# Altium footprint library SOT系列封装.PcbLib: 12 footprints
Each footprint in its own frame and in the unit in brackets; x right, y up, seen from the top. Pads: shape width x height; smd on the part's side, far side on the other; paste and mask are expansions set on the pad; w line width, h text height; cw(c..) or ccw(c..) is an arc to the next point about the centre after c.
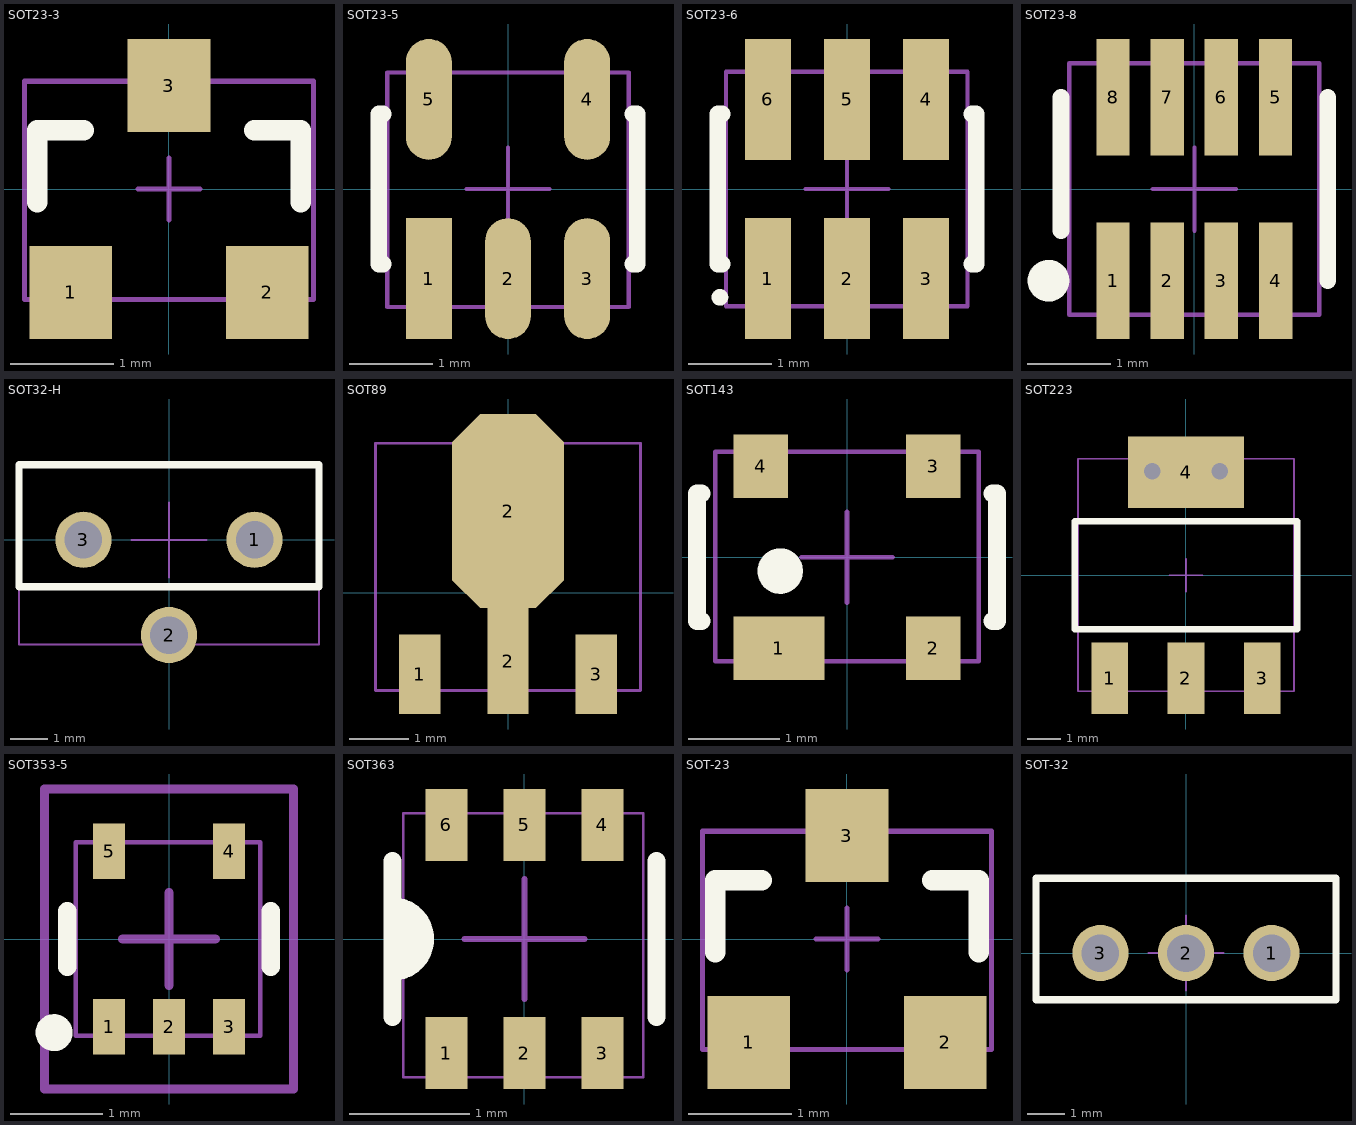
[diagram p0: the footprints below, top view; thin cyan lines are the x and y axes]

## SOT23-3 [mm] "SOT-23; 3 Leads; Body 3.0 x 2.5 mm, inc. leads (LxW max)"
height 1.2
pads (3):
  rect 0.8x0.9 smd: 1(-0.95,-1) 2(0.95,-1) 3(0,1)
Top Overlay:
  lines w0.2: -1.275,-0.127 -1.275,0.567 -0.825,0.567 ; 0.825,0.567 1.275,0.567 1.275,-0.127
Mechanical 13:
  lines w0.05: -1.397,-1.067 -1.397,1.041 -1.346,1.041 1.397,1.041 1.397,-1.067 -1.397,-1.067
Mechanical 15:
  lines w0.05: -0.3,0 0,0 ; 0,-0.3 0,0 ; 0,0.3 0,0 ; 0.3,0 0,0
3D body: height 0.9, standoff 0, extent -1.397,-1.067 1.403,1.033

## SOT23-5 [mm] "SOT-23/SC-74A; 5 Leads; Body 3 x 3 mm, inc. leads (LxW max)"
height 1.45
pads (5):
  rect 0.55x1.45 smd: 1(-0.95,-1.075)
  oval 0.55x1.45 smd: 2(0,-1.075) 3(0.95,-1.075) 4(0.95,1.075) 5(-0.95,1.075)
Top Overlay:
  lines w0.2: -1.5,-0.9 -1.55,-0.9 -1.55,0.9 -1.5,0.9 ; 1.5,-0.9 1.55,-0.9 1.55,0.9 1.5,0.9
Mechanical 13:
  lines w0.05: -1.45,-1.417 1.45,-1.417 1.45,1.397 -1.45,1.397 -1.45,-1.417
Mechanical 15:
  lines w0.05: -0.5,0 0.5,0 ; 0,-0.5 0,0.5
3D body: height 1.1, standoff 0.05, extent -1.45,-1.417 1.45,1.397

## SOT23-6 [mm] "SOT-23/SC-74A; 5 Leads; Body 3.1 x 3 mm, inc. leads (LxW max)"
height 1.45
pads (6):
  rect 0.55x1.45 smd: 1(-0.95,-1.075) 2(0,-1.075) 3(0.95,-1.075) 4(0.95,1.075) 5(0,1.075) 6(-0.95,1.075)
Top Overlay:
  circle w0.1: c-1.525,-1.3 r0.05
  lines w0.2: -1.5,-0.9 -1.55,-0.9 -1.55,0.9 -1.5,0.9 ; 1.5,-0.9 1.55,-0.9 1.55,0.9 1.5,0.9
Mechanical 13:
  lines w0.05: -1.452,-1.407 1.448,-1.407 1.448,1.407 -1.452,1.407 -1.452,-1.407
Mechanical 15:
  lines w0.05: -0.5,0 0.5,0 ; 0,-0.5 0,0.5
3D body: height 1.05, standoff 0, extent -1.452,-1.407 1.448,1.407

## SOT23-8 [mm] "SSOP; 8 Leads; Body Width 1.6 mm; Pitch 0.65 mm"
height 1.45
pads (8):
  rect 0.4x1.4 smd: 1(-0.975,-1.1) 2(-0.325,-1.1) 3(0.325,-1.1) 4(0.975,-1.1) 5(0.975,1.1) 6(0.325,1.1) 7(-0.325,1.1) 8(-0.975,1.1)
Top Overlay:
  circle w0.25: c-1.75,-1.1 r0.125
  lines w0.2: -1.6,-0.5 -1.6,1.1 ; 1.6,-1.1 1.6,1.1
Mechanical 13:
  lines w0.05: -1.501,-1.509 1.499,-1.509 1.499,1.509 -1.501,1.509 -1.501,-1.509
Mechanical 15:
  lines w0.05: -0.5,0 0.5,0 ; 0,-0.5 0,0.5
3D body: height 1, standoff 0, extent -1.501,-1.509 1.499,1.509

## SOT32-H [mm] "SOT-32 [TO-126]晶体管"
height 15
pads (3):
  round 1.5 hole 1: 1(2.28,0) 2(0,-2.54) 3(-2.28,0)
Top Overlay:
  lines w0.2: -4,-1.25 4,-1.25 4,2 -4,2 -4,-1.25
Mechanical 13:
  lines w0.05: -4,-2.79 -4,2 4,2 4,-2.79 -4,-2.79
Mechanical 15:
  lines w0.05: -1,0 1,0 ; 0,-1 0,1
3D body: height 15.3, standoff -3.7, extent -4,-2.79 4,2

## SOT89 [mm] "SOT-89; Body 4.6 x 4.25 mm, inc. leads (LxW max)"
height 1.6
pads (4):
  rect 0.7x1.35 smd: 1(-1.5,-1.388) 3(1.5,-1.388)
  rect 0.7x1.8 smd: 2(0,-1.162)
  oct 1.9x3.3 smd: 2(0,1.388)
Mechanical 13:
  lines w0.05: -2.25,-1.66 -2.25,2.54 2.25,2.54 2.25,-1.66 -2.25,-1.66
Mechanical 15:
  lines w0.05: -0.5,0 0.5,0 ; 0,-0.5 0,0.5
3D body: height 1.56, standoff 0.06, extent -2.25,-1.66 2.25,2.54

## SOT143 [mm] "SOT-143; 4 Leads; Body 3 x 2.5 mm, inc. leads (LxW max)"
height 1.2
pads (4):
  rect 1x0.7 smd: 1(-0.75,-1)
  rect 0.6x0.7 smd: 2(0.95,-1) 3(0.95,1) 4(-0.95,1)
Top Overlay:
  circle w0.25: c-0.735,-0.152 r0.125
  lines w0.2: -1.598,-0.7 -1.648,-0.7 -1.648,0.7 -1.598,0.7 ; 1.598,-0.7 1.648,-0.7 1.648,0.7 1.598,0.7
Mechanical 13:
  lines w0.05: -1.45,-1.143 -1.45,1.157 1.45,1.157 1.45,-1.143 -1.45,-1.143
Mechanical 15:
  lines w0.05: -0.5,0 0.5,0 ; 0,-0.5 0,0.5
3D body: height 1.1, standoff 0, extent -1.45,-1.143 1.45,1.157

## SOT223 [mm] "SOT-223/SC-73; 4 Leads; Body 6.7 x 7.3 mm, inc. leads (LxW max)"
height 1.8
pads (4):
  rect 1.1x2.15 smd: 1(-2.3,-3.1) 2(0,-3.1) 3(2.3,-3.1)
  rect 3.5x2.15 smd: 4(0,3.1)
via -1.016,3.124 diameter 0.8 hole 0.5
via 1.016,3.124 diameter 0.8 hole 0.5
Top Overlay:
  lines w0.2: -3.35,-1.625 -3.35,1.625 3.35,1.625 3.35,-1.625 -3.35,-1.625
Mechanical 13:
  lines w0.05: -3.25,-3.495 3.25,-3.495 3.25,3.505 -3.25,3.505 -3.25,-3.495
Mechanical 15:
  lines w0.05: -0.5,0 0.5,0 ; 0,-0.5 0,0.5
3D body: height 1.7, standoff 0.04, extent -3.25,-3.495 3.25,3.505

## SOT353-5 [mm] "SOT353, 5-Leads, Body 2x1.3mm, Pitch 0.65mm, Lead Span 2.1mm, IPC Medium Density"
height 1.1
pads (5):
  rect 0.35x0.6 smd: 1(-0.65,-0.95) 2(0,-0.95) 3(0.65,-0.95) 4(0.65,0.95) 5(-0.65,0.95)
Top Overlay:
  circle w0.2: c-1.245,-1.014 r0.1
  lines w0.2: -1.1,-0.3 -1.1,0.3 ; 1.1,-0.3 1.1,0.3
Mechanical 13:
  lines w0.05: -1.009,-1.05 0.991,-1.05 0.991,1.05 -1.009,1.05 -1.009,-1.05
Mechanical 15:
  lines w0.1: -0.5,0 0.5,0 ; 0,-0.5 0,0.5 ; -1.35,-1.625 -1.35,1.625 1.35,1.625 1.35,-1.625 -1.35,-1.625
3D body: height 1.05, standoff 0.02, extent -1.009,-1.05 0.991,1.05

## SOT363 [mm] "small diode and transistor"
height 1
pads (6):
  rect 0.35x0.6 smd: 1(-0.65,-0.95) 2(0,-0.95) 3(0.65,-0.95) 4(0.65,0.95) 5(0,0.95) 6(-0.65,0.95)
Top Overlay:
  lines w0.15: -1.1,-0.65 -1.1,0.65 ; -1.1,-0.273 ccw(c-1.1,0) -1.1,0.273 ; -1.1,-0.135 ccw(c-1.1,0) -1.1,0.135 ; 1.1,-0.65 1.1,0.65
Mechanical 13:
  lines w0.02: -1.009,-1.151 0.991,-1.151 0.991,1.049 -1.009,1.049 -1.009,-1.151
Mechanical 15:
  lines w0.05: -0.5,0 0.5,0 ; 0,-0.5 0,0.5
3D body: height 1.05, standoff 0, extent -1.009,-1.151 0.991,1.049

## SOT-23 [mm] "SOT-23; 3 Leads; Body 3.0 x 2.5 mm, inc. leads (LxW max)"
height 1.2
pads (3):
  rect 0.8x0.9 smd: 1(-0.95,-1) 2(0.95,-1) 3(0,1)
Top Overlay:
  lines w0.2: -1.275,-0.127 -1.275,0.567 -0.825,0.567 ; 0.825,0.567 1.275,0.567 1.275,-0.127
Mechanical 13:
  lines w0.05: -1.397,-1.067 -1.397,1.041 -1.346,1.041 1.397,1.041 1.397,-1.067 -1.397,-1.067
Mechanical 15:
  lines w0.05: -0.3,0 0,0 ; 0,-0.3 0,0 ; 0,0.3 0,0 ; 0.3,0 0,0
3D body: height 0.9, standoff 0, extent -1.397,-1.067 1.403,1.033

## SOT-32 [mm] "SOT-32 [TO-126]晶体管"
height 15
pads (3):
  round 1.5 hole 1: 1(2.28,0) 2(0,0) 3(-2.28,0)
Top Overlay:
  lines w0.2: -4,-1.25 -4,2 4,2 4,-1.25 -4,-1.25
Mechanical 13:
  lines w0.05: -4,-1.25 -4,2 4,2 4,-1.25 -4,-1.25
Mechanical 15:
  lines w0.05: -1,0 1,0 ; 0,-1 0,1
3D body: height 14.3, standoff -3.4, extent -4,-1.25 4,2